# Altium schematic symbol library REF5050MDREP.SchLib: 2 symbols
Pins are listed as number, name and electrical type; pins without a type are passive.

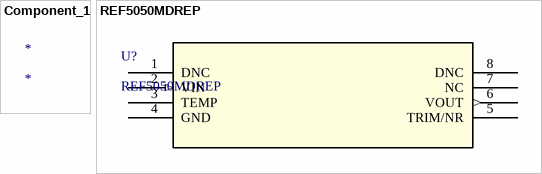
[diagram p0: symbols Component_1 to REF5050MDREP]

## Component_1
designator *

## REF5050MDREP
designator U?
No Description Available; Mfr_Name: Texas Instruments; Copyright: Copyright (C) 2022 Ultra Librarian. All rights reserved.; Manufacturer_Part_Number: REF5050MDREP; RefDes: RefDes; Type: DEV
footprint D8
pins: 1 DNC, 2 VIN (in), 3 TEMP, 4 GND, 5 TRIM/NR, 6 VOUT (out), 7 NC, 8 DNC